# Altium footprint library PMIC.PcbLib: 52 footprints (part 4 of 4)
Each footprint in its own frame and in the unit in brackets; x right, y up, seen from the top. Pads: shape width x height; smd on the part's side, far side on the other; paste and mask are expansions set on the pad; w line width, h text height; cw(c..) or ccw(c..) is an arc to the next point about the centre after c.
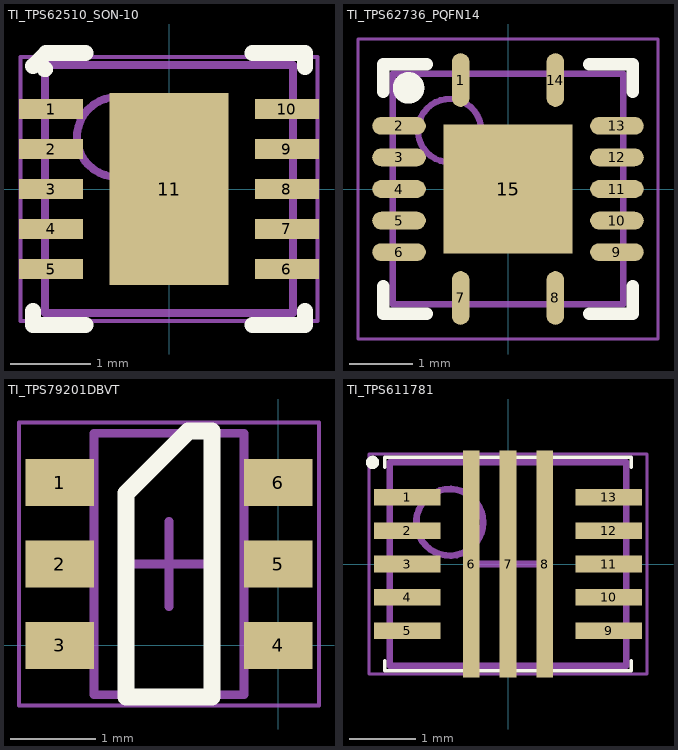
[diagram p3: the footprints below, top view; thin cyan lines are the x and y axes]

## TI_TPS62510_SON-10 [mm] "SON, 10-Leads, Body 3.00x3.00mm, Pitch 0.50mm, Thermal Pad 2.40x1.49mm, IPC High Density"
height 1
pads (11):
  rect 0.8x0.25 smd mask+0.05: 1(-1.475,1) 2(-1.475,0.5) 3(-1.475,0) 4(-1.475,-0.5) 5(-1.475,-1) 6(1.475,-1) 7(1.475,-0.5) 8(1.475,0) 9(1.475,0.5) 10(1.475,1)
  rect 1.49x2.4 smd mask+0.05: 11(0,0)
Top Overlay:
  circle w0.1: c-1.549,1.499 r0.05
  lines w0.2: -1.7,-1.525 -1.7,-1.7 -1.045,-1.7 ; -1.7,1.536 -1.536,1.7 -1.045,1.7 ; 1.045,-1.7 1.7,-1.7 1.7,-1.525 ; 1.045,1.7 1.7,1.7 1.7,1.525
Mechanical 13:
  circle w0.1: c-0.65,0.65 r0.5
  lines w0.1: -1.55,-1.55 1.55,-1.55 1.55,1.55 -1.55,1.55 -1.55,-1.55
Mechanical 15:
  lines w0.05: -1.855,-1.65 1.855,-1.65 1.855,1.65 -1.855,1.65 -1.855,-1.65
  lines w0.1: -0.5,0 0.5,0 ; 0,-0.5 0,0.5
3D body "TI_TPS62510_SON-10.step": height 1, standoff 0, extent -1.551,-1.55 1.551,1.55

## TI_TPS62736_PQFN14 [mm] "QFN, 14-Leads, Body 3.50x3.50mm, Pitch 1.50mm/0.50mm, Thermal Pad 2.05x2.05mm, IPC Medium Density"
height 1
pads (15):
  oval 0.28x0.85 smd mask+0.07: 1(-0.75,1.725) 7(-0.75,-1.725) 8(0.75,-1.725) 14(0.75,1.725)
  oval 0.85x0.28 smd mask+0.07: 2(-1.725,1) 3(-1.725,0.5) 4(-1.725,0) 5(-1.725,-0.5) 6(-1.725,-1) 9(1.725,-1) 10(1.725,-0.5) 11(1.725,0) 12(1.725,0.5) 13(1.725,1)
  rect 2.05x2.05 smd mask+0.07: 15(0,0)
Top Overlay:
  circle w0.25: c-1.575,1.6 r0.125
  lines w0.2: -1.975,-1.54 -1.975,-1.975 -1.29,-1.975 ; -1.975,1.54 -1.975,1.975 -1.29,1.975 ; 1.29,-1.975 1.975,-1.975 1.975,-1.54 ; 1.29,1.975 1.975,1.975 1.975,1.54
Mechanical 13:
  circle w0.1: c-0.925,0.925 r0.5
  lines w0.1: -1.825,-1.825 1.825,-1.825 1.825,1.825 -1.825,1.825 -1.825,-1.825
Mechanical 15:
  lines w0.05: -2.375,-2.375 2.375,-2.375 2.375,2.375 -2.375,2.375 -2.375,-2.375
  lines w0.1: -0.5,0 0.5,0 ; 0,-0.5 0,0.5
3D body "TI_TPS62736_PQFN14.step": height 1, standoff 0, extent -1.826,-1.826 1.826,1.826

## TI_TPS79201DBVT [mm] "SOT23, 6-Leads, Body 2.90x2.80mm, Pitch 0.95mm, IPC High Density"
height 1.45
pads (6):
  rect 0.8x0.55 smd: 1(-2.55,1.9) 2(-2.55,0.95) 3(-2.55,0) 4(0,0) 5(0,0.95) 6(0,1.9)
Top Overlay:
  lines w0.2: -1.775,-0.6 -1.775,1.775 -1.05,2.5 -0.775,2.5 -0.775,-0.6 -1.775,-0.6
Mechanical 13:
  lines w0.1: -2.15,-0.575 -2.15,2.475 -0.4,2.475 -0.4,-0.575 -2.15,-0.575
Mechanical 15:
  lines w0.05: -3.025,-0.7 -3.025,2.6 0.475,2.6 0.475,-0.7 -3.025,-0.7
  lines w0.1: -1.775,0.95 -0.775,0.95 ; -1.275,0.45 -1.275,1.45
3D body "TI_TPS79201DBVT.step": height 1.45, standoff 0, extent -2.775,-0.575 0.225,2.475

## TI_TPS611781 [mm] "SON, 10-Leads, Body 3.00x3.50mm, Pitch 0.50mm, IPC High Density"
height 1
pads (13):
  rect 1x0.25 smd: 1(-1.51,1) 2(-1.51,0.5) 3(-1.51,0) 4(-1.51,-0.5) 5(-1.51,-1) 9(1.51,-1) 10(1.51,-0.5) 11(1.51,0) 12(1.51,0.5) 13(1.51,1)
  rect 0.25x3.4 smd: 6(-0.55,0) 7(0,0) 8(0.55,0)
Top Overlay:
  circle w0.1: c-2.032,1.524 r0.05
  lines w0.05: -1.85,-1.45 -1.85,-1.6 1.85,-1.6 1.85,-1.45 ; -1.85,1.45 -1.85,1.6 1.85,1.6 1.85,1.45
Mechanical 13:
  circle w0.1: c-0.875,0.625 r0.5
  lines w0.1: -1.775,-1.525 -1.775,1.525 1.775,1.525 1.775,-1.525 -1.775,-1.525
Mechanical 15:
  lines w0.05: -2.085,-1.65 -2.085,1.65 2.085,1.65 2.085,-1.65 -2.085,-1.65
  lines w0.1: -0.5,0 0.5,0 ; 0,-0.5 0,0.5
3D body: height 1, standoff 0.05, extent -1.775,-1.525 1.775,1.525